# Altium schematic symbol library Schlib_Texas_Instruments.SchLib: 190 symbols (part 3 of 3)
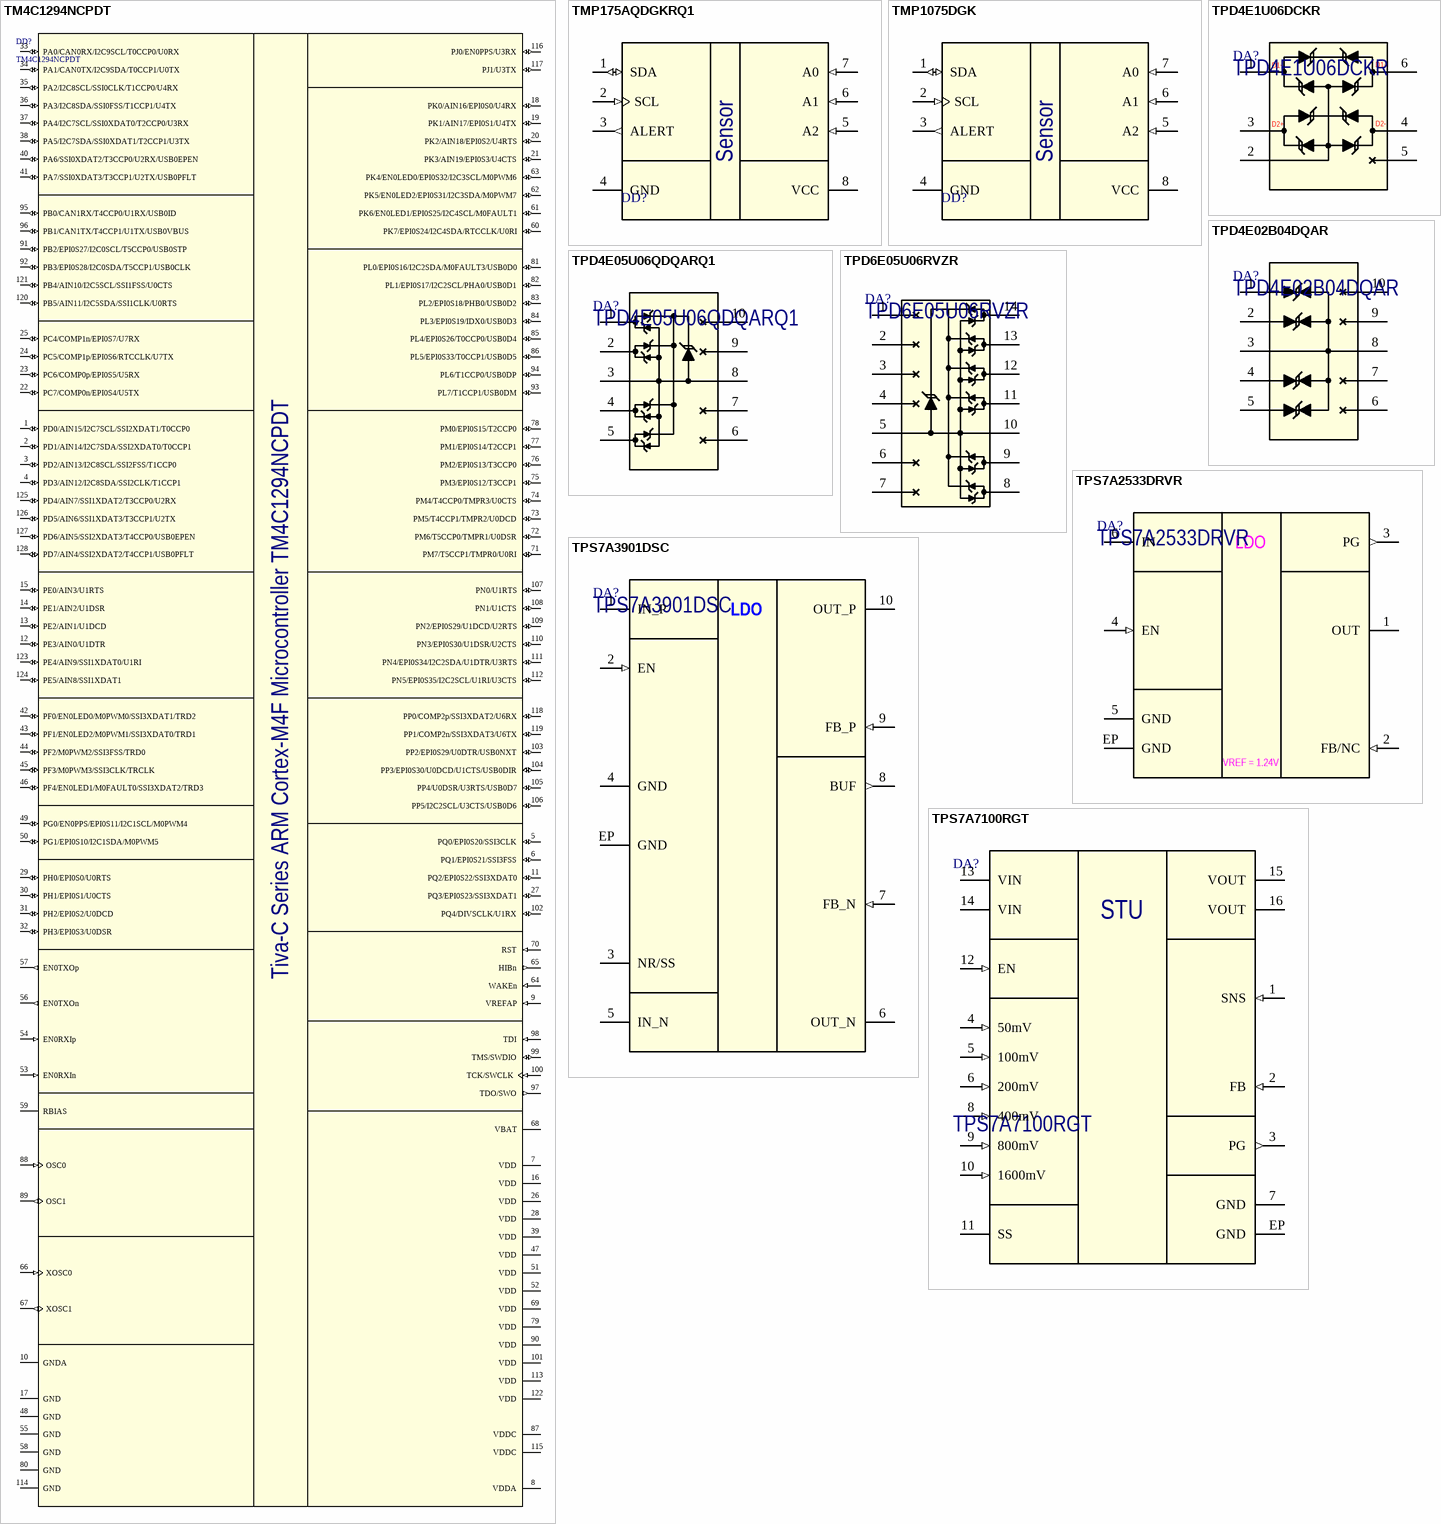
[diagram p27: symbols TM4C1294NCPDT to TPS7A7100RGT]

## TM4C1294NCPDT
designator DD?
ARM Cortex-M4F MCU 120MHz clock rate with 1MB Flash; Manufacturer: Texas Instruments; Package: TQFP128; Part Number: TM4C1294NCPDT
footprint LQFP-128 (TSQFP, 128-Leads, Body 14.00x14.00mm, Pitch 0.40mm, IPC Medium Density)
pins: 1 PD0/AIN15/I2C7SCL/SSI2XDAT1/T0CCP0 (io), 2 PD1/AIN14/I2C7SDA/SSI2XDAT0/T0CCP1 (io), 3 PD2/AIN13/I2C8SCL/SSI2FSS/T1CCP0 (io), 4 PD3/AIN12/I2C8SDA/SSI2CLK/T1CCP1 (io), 5 PQ0/EPI0S20/SSI3CLK (io), 6 PQ1/EPI0S21/SSI3FSS (io), 7 VDD (power), 8 VDDA (power), 9 VREFAP (in), 10 GNDA (power), 11 PQ2/EPI0S22/SSI3XDAT0 (io), 12 PE3/AIN0/U1DTR (io), 13 PE2/AIN1/U1DCD (io), 14 PE1/AIN2/U1DSR (io), 15 PE0/AIN3/U1RTS (io), 16 VDD (power), 17 GND (power), 18 PK0/AIN16/EPI0S0/U4RX (io), 19 PK1/AIN17/EPI0S1/U4TX (io), 20 PK2/AIN18/EPI0S2/U4RTS (io), 21 PK3/AIN19/EPI0S3/U4CTS (io), 22 PC7/COMP0n/EPI0S4/U5TX (io), 23 PC6/COMP0p/EPI0S5/U5RX (io), 24 PC5/COMP1p/EPI0S6/RTCCLK/U7TX (io), 25 PC4/COMP1n/EPI0S7/U7RX (io), 26 VDD (power), 27 PQ3/EPI0S23/SSI3XDAT1 (io), 28 VDD (power), 29 PH0/EPI0S0/U0RTS (io), 30 PH1/EPI0S1/U0CTS (io), 31 PH2/EPI0S2/U0DCD (io), 32 PH3/EPI0S3/U0DSR (io), 33 PA0/CAN0RX/I2C9SCL/T0CCP0/U0RX (io), 34 PA1/CAN0TX/I2C9SDA/T0CCP1/U0TX (io), 35 PA2/I2C8SCL/SSI0CLK/T1CCP0/U4RX (io), 36 PA3/I2C8SDA/SSI0FSS/T1CCP1/U4TX (io), 37 PA4/I2C7SCL/SSI0XDAT0/T2CCP0/U3RX (io), 38 PA5/I2C7SDA/SSI0XDAT1/T2CCP1/U3TX (io), 39 VDD (power), 40 PA6/SSI0XDAT2/T3CCP0/U2RX/USB0EPEN (io), 41 PA7/SSI0XDAT3/T3CCP1/U2TX/USB0PFLT (io), 42 PF0/EN0LED0/M0PWM0/SSI3XDAT1/TRD2 (io), 43 PF1/EN0LED2/M0PWM1/SSI3XDAT0/TRD1 (io), 44 PF2/M0PWM2/SSI3FSS/TRD0 (io), 45 PF3/M0PWM3/SSI3CLK/TRCLK (io), 46 PF4/EN0LED1/M0FAULT0/SSI3XDAT2/TRD3 (io), 47 VDD (power), 48 GND (power), 49 PG0/EN0PPS/EPI0S11/I2C1SCL/M0PWM4 (io), 50 PG1/EPI0S10/I2C1SDA/M0PWM5 (io), 51 VDD (power), 52 VDD (power), 53 EN0RXIn (in), 54 EN0RXIp (in), 55 GND (power), 56 EN0TXOn (out), 57 EN0TXOp (out), 58 GND (power), 59 RBIAS, 60 PK7/EPI0S24/I2C4SDA/RTCCLK/U0RI (io), 61 PK6/EN0LED1/EPI0S25/I2C4SCL/M0FAULT1 (io), 62 PK5/EN0LED2/EPI0S31/I2C3SDA/M0PWM7 (io), 63 PK4/EN0LED0/EPI0S32/I2C3SCL/M0PWM6 (io), 64 WAKEn (in), 65 HIBn (out), 66 XOSC0 (in), 67 XOSC1 (out), 68 VBAT (power), 69 VDD (power), 70 RST (in), 71 PM7/T5CCP1/TMPR0/U0RI (io), 72 PM6/T5CCP0/TMPR1/U0DSR (io), 73 PM5/T4CCP1/TMPR2/U0DCD (io), 74 PM4/T4CCP0/TMPR3/U0CTS (io), 75 PM3/EPI0S12/T3CCP1 (io), 76 PM2/EPI0S13/T3CCP0 (io), 77 PM1/EPI0S14/T2CCP1 (io), 78 PM0/EPI0S15/T2CCP0 (io), 79 VDD (power), 80 GND (power), 81 PL0/EPI0S16/I2C2SDA/M0FAULT3/USB0D0 (io), 82 PL1/EPI0S17/I2C2SCL/PHA0/USB0D1 (io), 83 PL2/EPI0S18/PHB0/USB0D2 (io), 84 PL3/EPI0S19/IDX0/USB0D3 (io), 85 PL4/EPI0S26/T0CCP0/USB0D4 (io), 86 PL5/EPI0S33/T0CCP1/USB0D5 (io), 87 VDDC (power), 88 OSC0 (in), 89 OSC1 (out), 90 VDD (power), 91 PB2/EPI0S27/I2C0SCL/T5CCP0/USB0STP (io), 92 PB3/EPI0S28/I2C0SDA/T5CCP1/USB0CLK (io), 93 PL7/T1CCP1/USB0DM (io), 94 PL6/T1CCP0/USB0DP (io), 95 PB0/CAN1RX/T4CCP0/U1RX/USB0ID (io), 96 PB1/CAN1TX/T4CCP1/U1TX/USB0VBUS (io), 97 TDO/SWO (out), 98 TDI (in), 99 TMS/SWDIO (io), 100 TCK/SWCLK (in), 101 VDD (power), 102 PQ4/DIVSCLK/U1RX (io), 103 PP2/EPI0S29/U0DTR/USB0NXT (io), 104 PP3/EPI0S30/U0DCD/U1CTS/USB0DIR (io), 105 PP4/U0DSR/U3RTS/USB0D7 (io), 106 PP5/I2C2SCL/U3CTS/USB0D6 (io), 107 PN0/U1RTS (io), 108 PN1/U1CTS (io), 109 PN2/EPI0S29/U1DCD/U2RTS (io), 110 PN3/EPI0S30/U1DSR/U2CTS (io), 111 PN4/EPI0S34/I2C2SDA/U1DTR/U3RTS (io), 112 PN5/EPI0S35/I2C2SCL/U1RI/U3CTS (io), 113 VDD (power), 114 GND (power), 115 VDDC (power), 116 PJ0/EN0PPS/U3RX (io), 117 PJ1/U3TX (io), 118 PP0/COMP2p/SSI3XDAT2/U6RX (io), 119 PP1/COMP2n/SSI3XDAT3/U6TX (io), 120 PB5/AIN11/I2C5SDA/SSI1CLK/U0RTS (io), 121 PB4/AIN10/I2C5SCL/SSI1FSS/U0CTS (io), 122 VDD (power), 123 PE4/AIN9/SSI1XDAT0/U1RI (io), 124 PE5/AIN8/SSI1XDAT1 (io), 125 PD4/AIN7/SSI1XDAT2/T3CCP0/U2RX (io), 126 PD5/AIN6/SSI1XDAT3/T3CCP1/U2TX (io), 127 PD6/AIN5/SSI2XDAT3/T4CCP0/USB0EPEN (io), 128 PD7/AIN4/SSI2XDAT2/T4CCP1/USB0PFLT (io)
text: Tiva-C Series ARM Cortex-M4F Microcontroller TM4C1294NCPDT

## TMP175AQDGKRQ1
designator DD?
Temperature Sensor With I2C and SMBus Interface; Manufacturer: Texas Instruments; Part Number: TMP175AQDGKRQ1; Package: MSOP-8; Author: Sklyarov
footprint MSOP-8 (TSOP, 8-Leads, Body 3.00x3.00mm, Pitch 0.65mm, IPC Medium Density)
pins: 1 SDA (io), 2 SCL (in), 3 ALERT (out), 4 GND (power), 5 A2 (in), 6 A1 (in), 7 A0 (in), 8 VCC (power)
text: Sensor

## TMP1075DGK
designator DD?
Temperature Sensor With I2C and SMBus Interface; Manufacturer: Texas Instruments; Part Number: TMP1075DGK; Package: MSOP-8; Author: Sklyarov
footprint MSOP-8 (TSOP, 8-Leads, Body 3.00x3.00mm, Pitch 0.65mm, IPC Medium Density)
pins: 1 SDA (io), 2 SCL (in), 3 ALERT (out), 4 GND (power), 5 A2 (in), 6 A1 (in), 7 A0 (in), 8 VCC (power)
text: Sensor

## TPD4E1U06DCKR
designator DA?
6 Quad-Channel, High-Speed ESD Protection Device; Manufacturer: Texas Instruments; Part Number: TPD4E1U06DCKR; Package: SC70-6
footprint SC70-6
pins: 1 D1+, 2 GND (power), 3 D2+, 4 D2-, 5 NC (hiz), 6 D1-

## TPD4E02B04DQAR
designator DA?
4-Channel ESD Protection Diode for USB Type-C and HDMI 2.0; Manufacturer: Texas Instruments; Part Number: TPD4E02B04DQAR; Package: USON-10
footprint USON-10 (USON-10 package. Ref DQA0010A TI)
pins: 1 IO1, 2 IO2, 3 GND (hiz), 4 IO3, 5 IO4, 6 NC (hiz), 7 NC (hiz), 8 GND (hiz), 9 NC (hiz), 10 NC (hiz)

## TPD4E05U06QDQARQ1
designator DA?
4 Channel ESD Protection Diodes for SuperSpeed (Up to 6 Gbps); Manufacturer: Texas Instruments; Part Number: TPD4E05U06QDQARQ1; Package: USON-10
footprint USON-10 (USON-10 package. Ref DQA0010A TI)
pins: 1 IO1, 2 IO2, 3 GND (hiz), 4 IO3, 5 IO4, 6 NC (hiz), 7 NC (hiz), 8 GND (hiz), 9 NC (hiz), 10 NC (hiz)

## TPD6E05U06RVZR
designator DA?
6 Channel ESD Protection Diodes for SuperSpeed (Up to 6 Gbps); Manufacturer: Texas Instruments; Part Number: TPD6E05U06RVZR; Package: USON-14
footprint USON-14 (USON-14 package)
pins: 1 NC (hiz), 2 NC (hiz), 3 NC (hiz), 4 NC (hiz), 5 GND (power), 6 NC (hiz), 7 NC (hiz), 8 D3-, 9 D3+, 10 GND (power), 11 D2-, 12 D2+, 13 D1-, 14 D1+

## TPS7A2533DRVR
designator DA?
3.3V Low-Dropout Linear Voltage Regulator With Power-Good; Manufacturer: Texas Instruments; Part Number: TPS7A2533DRVR; Package: WSON-6
footprint DRV6
pins: 1 OUT (power), 2 FB/NC (in), 3 PG (out), 4 EN (in), 5 GND (power), 6 IN (power), EP GND (power)
text: LDO; VREF = 1.24V

## TPS7A3901DSC
designator DA?
Dual, 150 mA Positive and Negative LDO Voltage Regulator; Manufacturer: Texas Instruments; Part Number: TPS7A3901DSC; Package: WSON-10
footprint WSON-10 (WSON-10, TI case style DSC0010J)
pins: 1 IN_P (power), 2 EN (in), 3 NR/SS, 4 GND (power), 5 IN_N (power), 6 OUT_N (power), 7 FB_N (in), 8 BUF (out), 9 FB_P (in), 10 OUT_P (power), EP GND (power)
text: LDO

## TPS7A7100RGT
designator DA?
1-A, Fast-Transient, Low-Dropout Voltage Regulator; Manufacturer: Texas Instruments; Part Number: TPS7A7100RGT; Package: VQFN-16 (3mm x 3mm)
footprint VQFN-16 (VQFN-16 package 3 x 3mm with 0.5mm pitch)
pins: 1 SNS (in), 2 FB (in), 3 PG (out), 4 50mV (in), 5 100mV (in), 6 200mV (in), 7 GND (power), 8 400mV (in), 9 800mV (in), 10 1600mV (in), 11 SS, 12 EN (in), 13 VIN (power), 14 VIN (power), 15 VOUT (power), 16 VOUT (power), EP GND (power)
text: STU

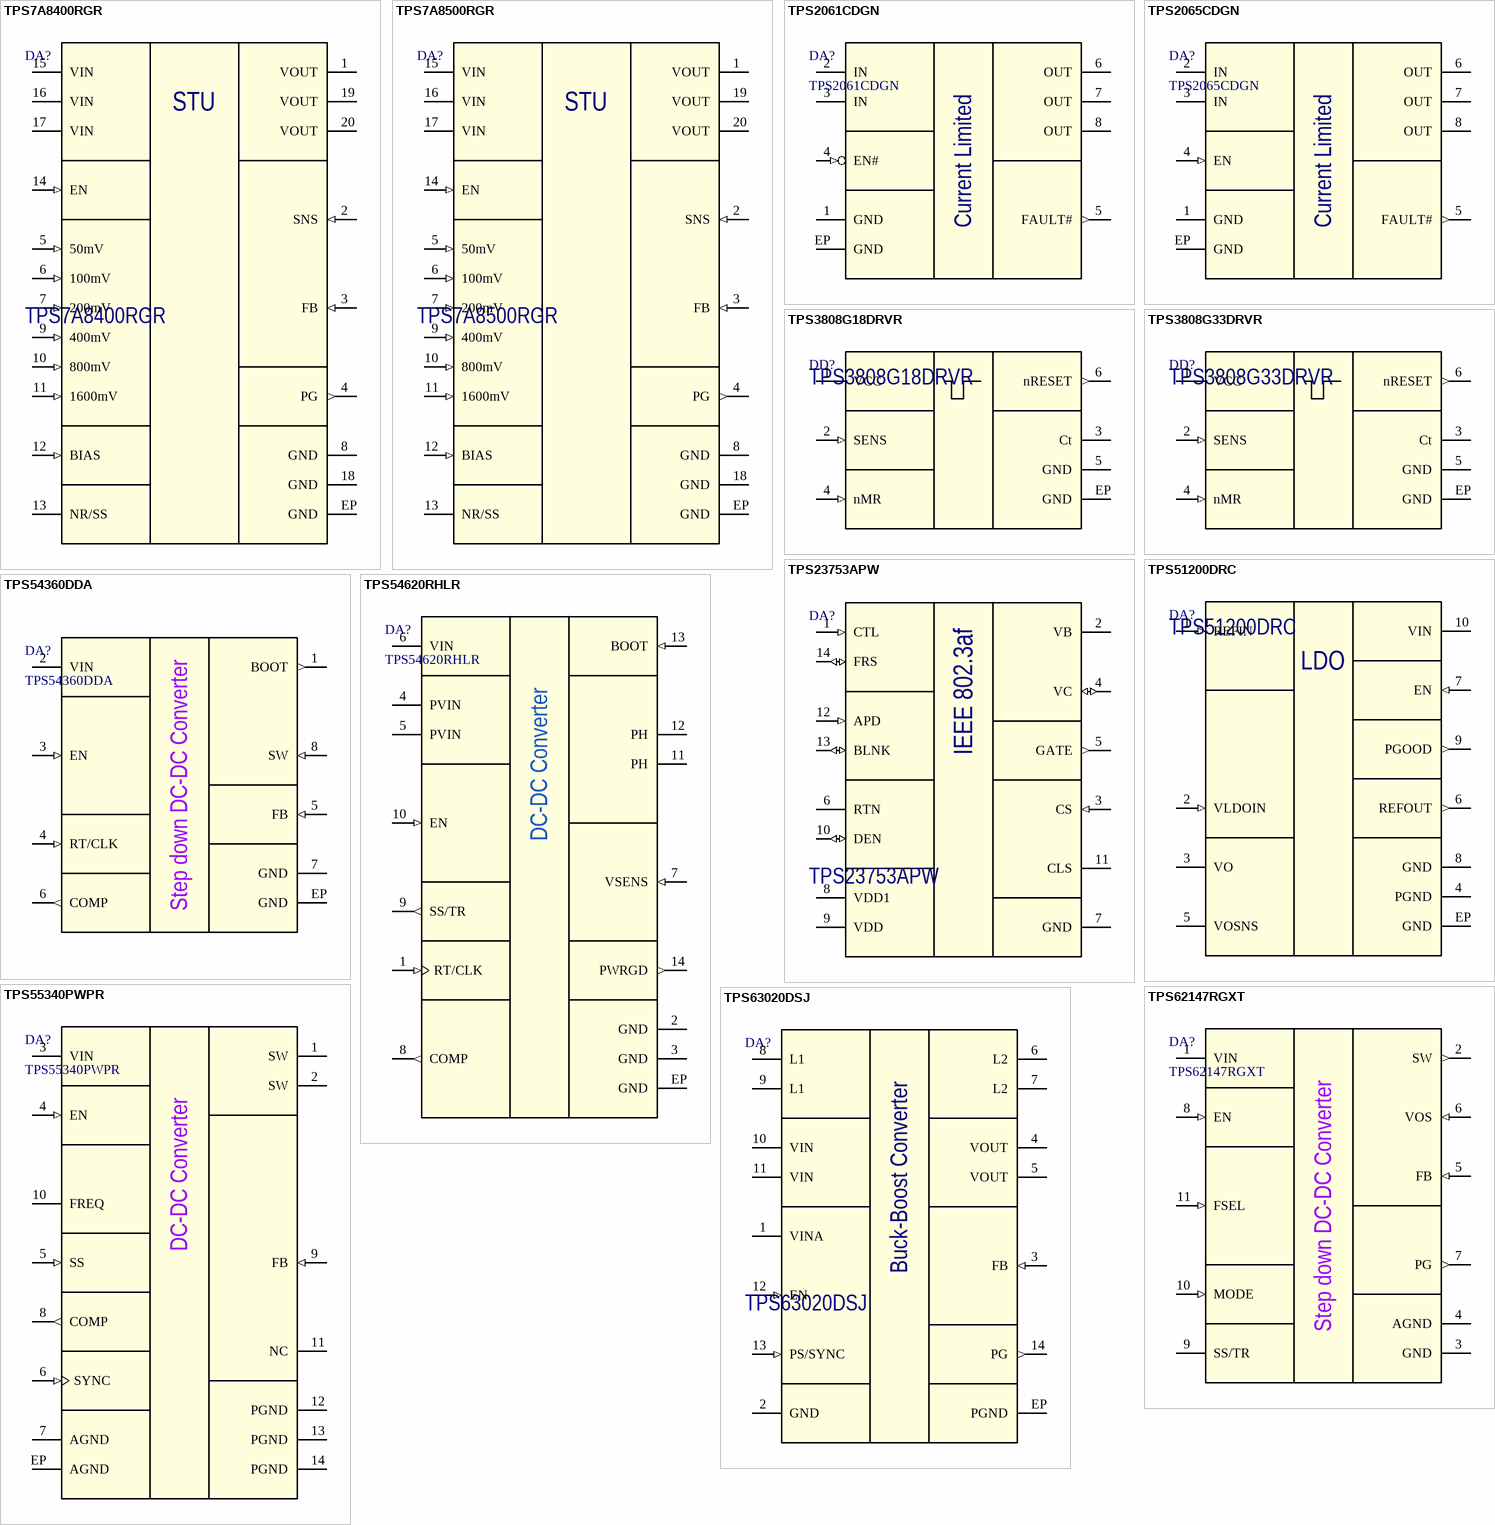
[diagram p22: symbols TPS7A8400RGR to TPS63020DSJ]

## TPS7A8400RGR
designator DA?
High-Current (3 A) Low-Noise (4.4 µVRMS) LDO Voltage Regulator; Manufacturer: Texas Instruments; Part Number: TPS7A8400RGR; Package: VQFN-20 (3.5mm x 3.5mm)
footprint VQFN-20 (VQFN-20 package 3.5 x 3.5mm with 0.5mm pitch)
pins: 1 VOUT (power), 2 SNS (in), 3 FB (in), 4 PG (out), 5 50mV (in), 6 100mV (in), 7 200mV (in), 8 GND (power), 9 400mV (in), 10 800mV (in), 11 1600mV (in), 12 BIAS (in), 13 NR/SS, 14 EN (in), 15 VIN (power), 16 VIN (power), 17 VIN (power), 18 GND (power), 19 VOUT (power), 20 VOUT (power), EP GND (power)
text: STU

## TPS7A8500RGR
designator DA?
High-Current (4 A) Low-Noise (4.4 µVRMS) LDO Voltage Regulator; Manufacturer: Texas Instruments; Part Number: TPS7A8500RGR; Package: VQFN-20 (3.5mm x 3.5mm)
footprint VQFN-20 (VQFN-20 package 3.5 x 3.5mm with 0.5mm pitch)
pins: 1 VOUT (power), 2 SNS (in), 3 FB (in), 4 PG (out), 5 50mV (in), 6 100mV (in), 7 200mV (in), 8 GND (power), 9 400mV (in), 10 800mV (in), 11 1600mV (in), 12 BIAS (in), 13 NR/SS, 14 EN (in), 15 VIN (power), 16 VIN (power), 17 VIN (power), 18 GND (power), 19 VOUT (power), 20 VOUT (power), EP GND (power)
text: STU

## TPS2061CDGN
designator DA?
Current Limited, Power-Distribution Switches; Manufacturer: Texas Instruments; Part Number: TPS2061CDGN; Package: MSOP-8
footprint MSOP-8EP (TSOP, 8-Leads, Body 3.00x3.00mm, Pitch 0.65mm, IPC Medium Density)
pins: 1 GND (power), 2 IN (power), 3 IN (power), 4 EN# (in), 5 FAULT# (out), 6 OUT (power), 7 OUT (power), 8 OUT (power), EP GND (power)
text: Current Limited

## TPS2065CDGN
designator DA?
Current Limited, Power-Distribution Switches; Manufacturer: Texas Instruments; Part Number: TPS2065CDGN; Package: MSOP-8
footprint MSOP-8EP (TSOP, 8-Leads, Body 3.00x3.00mm, Pitch 0.65mm, IPC Medium Density)
pins: 1 GND (power), 2 IN (power), 3 IN (power), 4 EN (in), 5 FAULT# (out), 6 OUT (power), 7 OUT (power), 8 OUT (power), EP GND (power)
text: Current Limited

## TPS3808G18DRVR
designator DD?
Programmable-Delay Supervisory Circuit; Manufacturer: Texas Instruments; Part Number: TPS3808G18DRVR; Package: WSON-6; Dimension: 2 x 2 x 0.8 mm
footprint WDFN-6 (WDFN-6 package 2mm x 2mm with 0.65mm pitch)
pins: 1 VCC (power), 2 SENS (in), 3 Ct, 4 nMR (in), 5 GND (power), 6 nRESET (out), EP GND (power)

## TPS3808G33DRVR
designator DD?
Programmable-Delay Supervisory Circuit; Manufacturer: Texas Instruments; Part Number: TPS3808G33DRVR; Package: WSON-6; Dimension: 2 x 2 x 0.8 mm
footprint WDFN-6 (WDFN-6 package 2mm x 2mm with 0.65mm pitch)
pins: 1 VCC (power), 2 SENS (in), 3 Ct, 4 nMR (in), 5 GND (power), 6 nRESET (out), EP GND (power)

## TPS23753APW
designator DA?
IEEE 802.3 PoE Interface and Converter Controller With Enhanced ESD  Immunity; Manufacturer: Texas Instruments; Part Number: TPS23753APW; Package: TSSOP-14
footprint TSSOP-14 (TSOP, 20-Leads, Body 6.50x4.40mm, Pitch 0.65mm, IPC Medium Density)
pins: 1 CTL (in), 2 VB (power), 3 CS (in), 4 VC (io), 5 GATE (out), 6 RTN, 7 GND (power), 8 VDD1 (power), 9 VDD (power), 10 DEN (io), 11 CLS (power), 12 APD (in), 13 BLNK (io), 14 FRS (io)
text: IEEE 802.3af

## TPS51200DRC
designator DA?
Sink and Source DDR Termination Regulator; Manufacturer: Texas Instruments; Part Number: TPS51200DRC; Package: VSON-10
footprint VSON-10 (VSON-10 package 3 x 3mm with 0.5mm pitch)
pins: 1 REFIN (in), 2 VLDOIN (in), 3 VO (power), 4 PGND (power), 5 VOSNS (power), 6 REFOUT (out), 7 EN (in), 8 GND (power), 9 PGOOD (out), 10 VIN (power), EP GND (power)
text: LDO

## TPS54360DDA
designator DA?
60-V Input, 3.5-A, Step-Down DC/DC Converter With Eco-Mode; Manufacturer: Texas Instruments; Part Number: TPS54360DDA; Package: SOIC-8
footprint SOIC-8EP (SOIC-8 package with exponsed pad)
pins: 1 BOOT (out), 2 VIN (power), 3 EN (in), 4 RT/CLK (in), 5 FB (in), 6 COMP (out), 7 GND (power), 8 SW (in), EP GND (power)
text: Step down DC-DC Converter

## TPS54620RHLR
designator DA?
4.5-V to 17-V Input, 6-A, Synchronous, Step-Down SWIFT™ Converter; Manufacturer: Texas Instruments; Part Number: TPS54620RHLR; Package: VQFN-14
footprint VQFN-14_RHL0014A (VQFN-24 package 5.5x3.5mm with 0.5mm pitch)
pins: 1 RT/CLK (in), 2 GND (power), 3 GND (power), 4 PVIN (power), 5 PVIN (power), 6 VIN (power), 7 VSENS (in), 8 COMP (out), 9 SS/TR (out), 10 EN (in), 11 PH (power), 12 PH (power), 13 BOOT (in), 14 PWRGD (out), EP GND (power)
text: DC-DC Converter

## TPS55340PWPR
designator DA?
Integrated 5-A Wide Input Range Boost/SEPIC/Flyback DC/DC Regulator; Manufacturer: Texas Instruments; Part Number: TPS55340PWPR; Package: HTSSOP-14
footprint HTSSOP-14_WITHOUT_HEATSINK
footprint HTSSOP-14
pins: 1 SW (power), 2 SW (power), 3 VIN (power), 4 EN (in), 5 SS (in), 6 SYNC (in), 7 AGND (power), 8 COMP (out), 9 FB (in), 10 FREQ, 11 NC (hiz), 12 PGND (power), 13 PGND (power), 14 PGND (power), EP AGND (power)
text: DC-DC Converter

## TPS62147RGXT
designator DA?
High Accuracy 3-V to 17-V 2-A Step-Down Converter; Manufacturer: Texas Instruments; Part Number: TPS62147RGXT; Package: VQFN-HR-11
footprint VQFN-HR-11 (VQFN-HR-11 package with 0.5mm pitch)
pins: 1 VIN (power), 2 SW (out), 3 GND (power), 4 AGND (power), 5 FB (in), 6 VOS (in), 7 PG (out), 8 EN (in), 9 SS/TR, 10 MODE (in), 11 FSEL (in)
text: Step down DC-DC Converter

## TPS63020DSJ
designator DA?
High Efficiency Single Inductor Buck-Boost Converter with 4-A Switches; Manufacturer: Texas Instruments; Part Number: TPS63020DSJ; Package: PVSON-14
footprint PVSON-14 (PVSON-14 4mm x 3mm, 0.4mm pitch)
pins: 1 VINA (power), 2 GND (power), 3 FB (in), 4 VOUT (power), 5 VOUT (power), 6 L2, 7 L2, 8 L1, 9 L1, 10 VIN (power), 11 VIN (power), 12 EN (in), 13 PS/SYNC (in), 14 PG (out), EP PGND (power)
text: Buck-Boost Converter

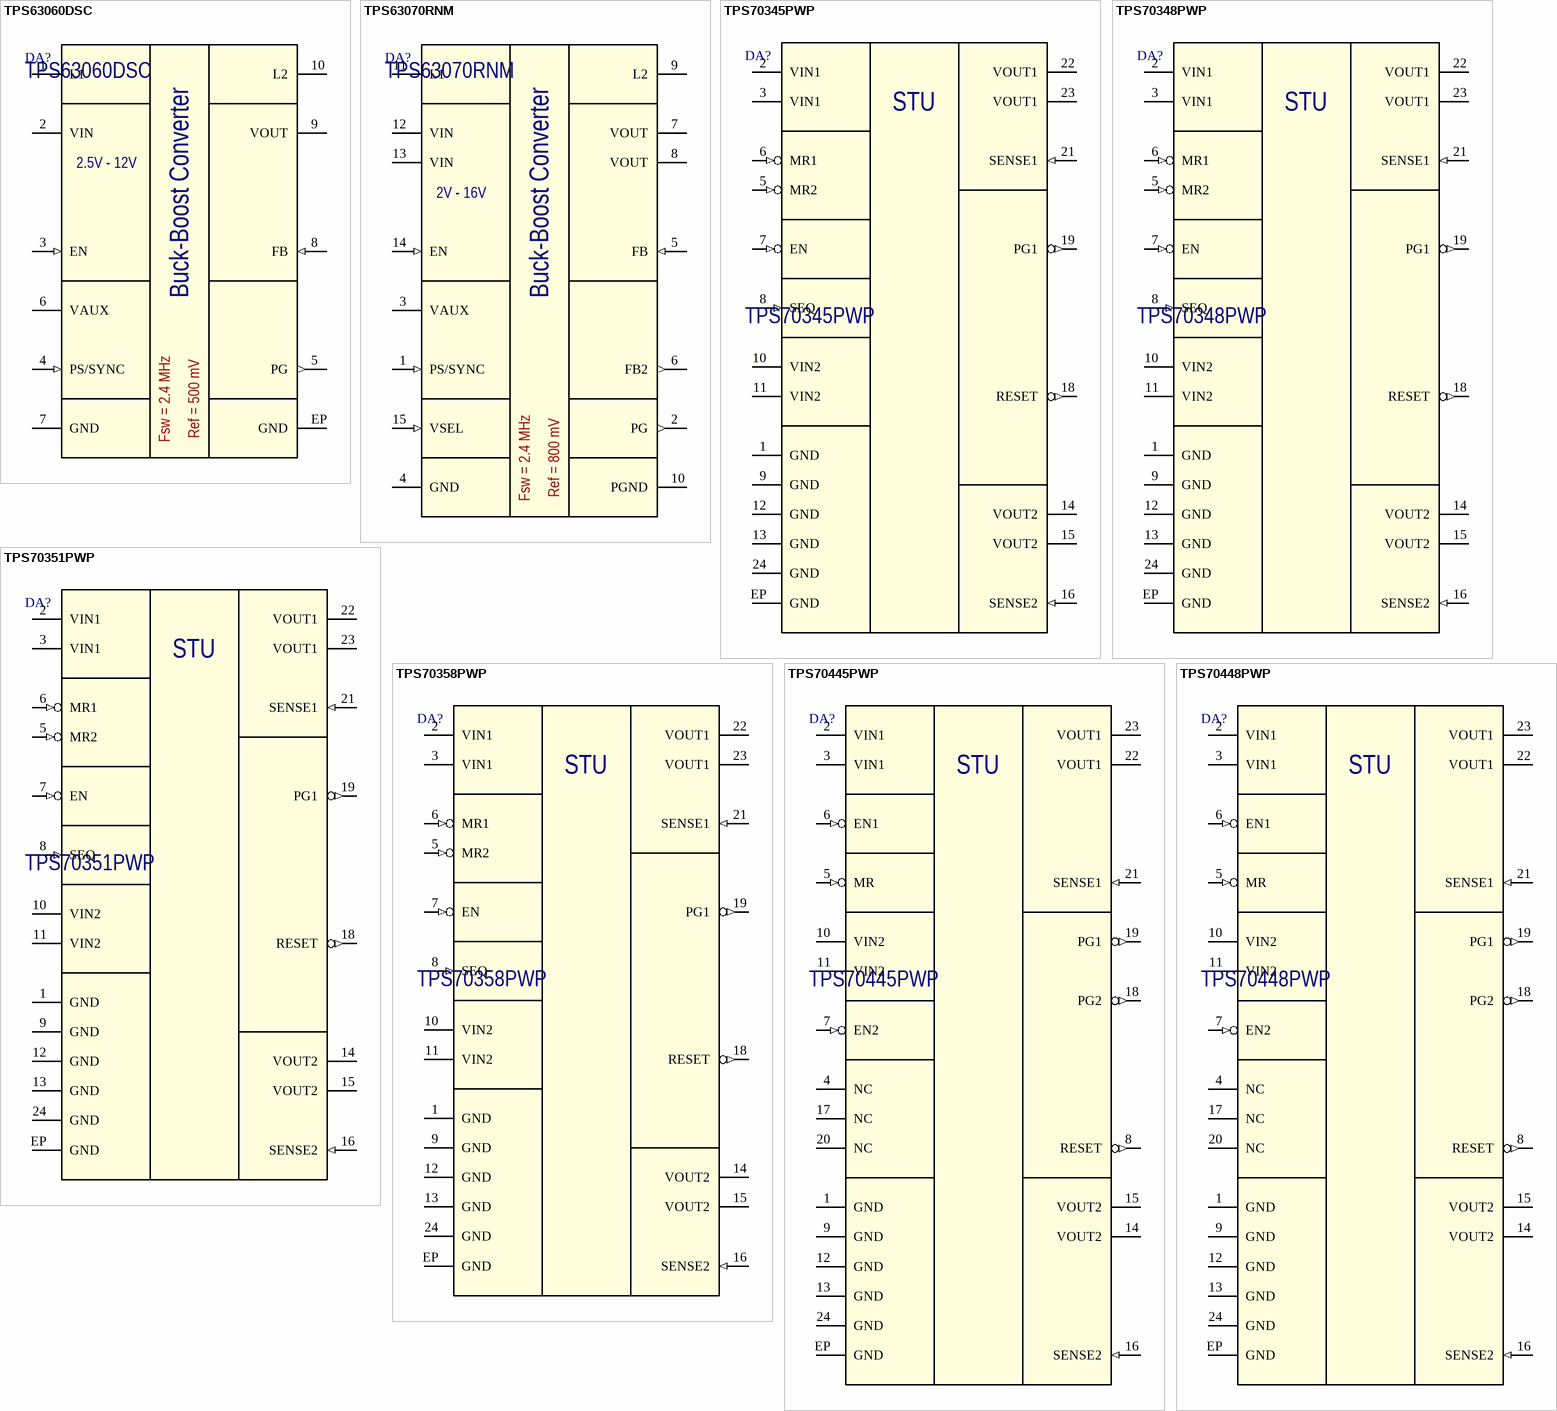
[diagram p23: symbols TPS63060DSC to TPS70448PWP]

## TPS63060DSC
designator DA?
High Input Voltage, 2A Buck-Boost Converter; Manufacturer: Texas Instruments; Part Number: TPS63060DSC; Package: PWSON-10
footprint PWSON-10 (Power QFN 3mm x 3mm)
pins: 1 L1, 2 VIN (power), 3 EN (in), 4 PS/SYNC (in), 5 PG (out), 6 VAUX, 7 GND (power), 8 FB (in), 9 VOUT (power), 10 L2, EP GND (power)
text: 2.5V - 12V; Buck-Boost Converter; Fsw = 2.4 MHz; Ref = 500 mV

## TPS63070RNM
designator DA?
High Input Voltage, 2A Buck-Boost Converter; Manufacturer: Texas Instruments; Part Number: TPS63070RNM; Package: VQFN-15
footprint VQFN-15 (Power VQFN 3mm x 2.5mm)
pins: 1 PS/SYNC (in), 2 PG (out), 3 VAUX, 4 GND (power), 5 FB (in), 6 FB2 (out), 7 VOUT (power), 8 VOUT (power), 9 L2, 10 PGND (power), 11 L1, 12 VIN (power), 13 VIN (power), 14 EN (in), 15 VSEL (in)
text: 2V - 16V; Buck-Boost Converter; Fsw = 2.4 MHz; Ref = 800 mV

## TPS70345PWP
designator DA?
LDO (V1 = 3.3V, V2 = 1.2V); Manufacturer: Texas Instruments; Part Number: TPS70345PWP; Package: HTSSOP-24
footprint HTSSOP-24
footprint HTSSOP-24_WITHOUT_HEATSINK
pins: 1 GND (power), 2 VIN1 (power), 3 VIN1 (power), 5 MR2 (in), 6 MR1 (in), 7 EN (in), 8 SEQ (in), 9 GND (power), 10 VIN2 (power), 11 VIN2 (power), 12 GND (power), 13 GND (power), 14 VOUT2 (power), 15 VOUT2 (power), 16 SENSE2 (in), 18 RESET (out), 19 PG1 (out), 21 SENSE1 (in), 22 VOUT1 (power), 23 VOUT1 (power), 24 GND (power), EP GND (power)
text: STU

## TPS70348PWP
designator DA?
LDO (V1 = 3.3V, V2 = 1.5V); Manufacturer: Texas Instruments; Part Number: TPS70348PWP; Package: HTSSOP-24
footprint HTSSOP-24
footprint HTSSOP-24_WITHOUT_HEATSINK
pins: 1 GND (power), 2 VIN1 (power), 3 VIN1 (power), 5 MR2 (in), 6 MR1 (in), 7 EN (in), 8 SEQ (in), 9 GND (power), 10 VIN2 (power), 11 VIN2 (power), 12 GND (power), 13 GND (power), 14 VOUT2 (power), 15 VOUT2 (power), 16 SENSE2 (in), 18 RESET (out), 19 PG1 (out), 21 SENSE1 (in), 22 VOUT1 (power), 23 VOUT1 (power), 24 GND (power), EP GND (power)
text: STU

## TPS70351PWP
designator DA?
LDO (V1 = 3.3V, V2 = 1.8V); Manufacturer: Texas Instruments; Part Number: TPS70351PWP; Package: HTSSOP-24
footprint HTSSOP-24
footprint HTSSOP-24_WITHOUT_HEATSINK
pins: 1 GND (power), 2 VIN1 (power), 3 VIN1 (power), 5 MR2 (in), 6 MR1 (in), 7 EN (in), 8 SEQ (in), 9 GND (power), 10 VIN2 (power), 11 VIN2 (power), 12 GND (power), 13 GND (power), 14 VOUT2 (power), 15 VOUT2 (power), 16 SENSE2 (in), 18 RESET (out), 19 PG1 (out), 21 SENSE1 (in), 22 VOUT1 (power), 23 VOUT1 (power), 24 GND (power), EP GND (power)
text: STU

## TPS70358PWP
designator DA?
LDO (V1 = 3.3V, V2 = 2.5V); Manufacturer: Texas Instruments; Part Number: TPS70358PWP; Package: HTSSOP-24
footprint HTSSOP-24
footprint HTSSOP-24_WITHOUT_HEATSINK
pins: 1 GND (power), 2 VIN1 (power), 3 VIN1 (power), 5 MR2 (in), 6 MR1 (in), 7 EN (in), 8 SEQ (in), 9 GND (power), 10 VIN2 (power), 11 VIN2 (power), 12 GND (power), 13 GND (power), 14 VOUT2 (power), 15 VOUT2 (power), 16 SENSE2 (in), 18 RESET (out), 19 PG1 (out), 21 SENSE1 (in), 22 VOUT1 (power), 23 VOUT1 (power), 24 GND (power), EP GND (power)
text: STU

## TPS70445PWP
designator DA?
LDO (V1 = 3.3V, V2 = 1.2V) with two enable; Manufacturer: Texas Instruments; Part Number: TPS70445PWP; Package: HTSSOP-24
footprint HTSSOP-24
footprint HTSSOP-24_WITHOUT_HEATSINK
pins: 1 GND (power), 2 VIN1 (power), 3 VIN1 (power), 4 NC (hiz), 5 MR (in), 6 EN1 (in), 7 EN2 (in), 8 RESET (out), 9 GND (power), 10 VIN2 (power), 11 VIN2 (power), 12 GND (power), 13 GND (power), 14 VOUT2 (power), 15 VOUT2 (power), 16 SENSE2 (in), 17 NC (hiz), 18 PG2 (out), 19 PG1 (out), 20 NC (hiz), 21 SENSE1 (in), 22 VOUT1 (power), 23 VOUT1 (power), 24 GND (power), EP GND (power)
text: STU

## TPS70448PWP
designator DA?
LDO (V1 = 3.3V, V2 = 1.5V) with two enable; Manufacturer: Texas Instruments; Part Number: TPS70448PWP; Package: HTSSOP-24
footprint HTSSOP-24
footprint HTSSOP-24_WITHOUT_HEATSINK
pins: 1 GND (power), 2 VIN1 (power), 3 VIN1 (power), 4 NC (hiz), 5 MR (in), 6 EN1 (in), 7 EN2 (in), 8 RESET (out), 9 GND (power), 10 VIN2 (power), 11 VIN2 (power), 12 GND (power), 13 GND (power), 14 VOUT2 (power), 15 VOUT2 (power), 16 SENSE2 (in), 17 NC (hiz), 18 PG2 (out), 19 PG1 (out), 20 NC (hiz), 21 SENSE1 (in), 22 VOUT1 (power), 23 VOUT1 (power), 24 GND (power), EP GND (power)
text: STU

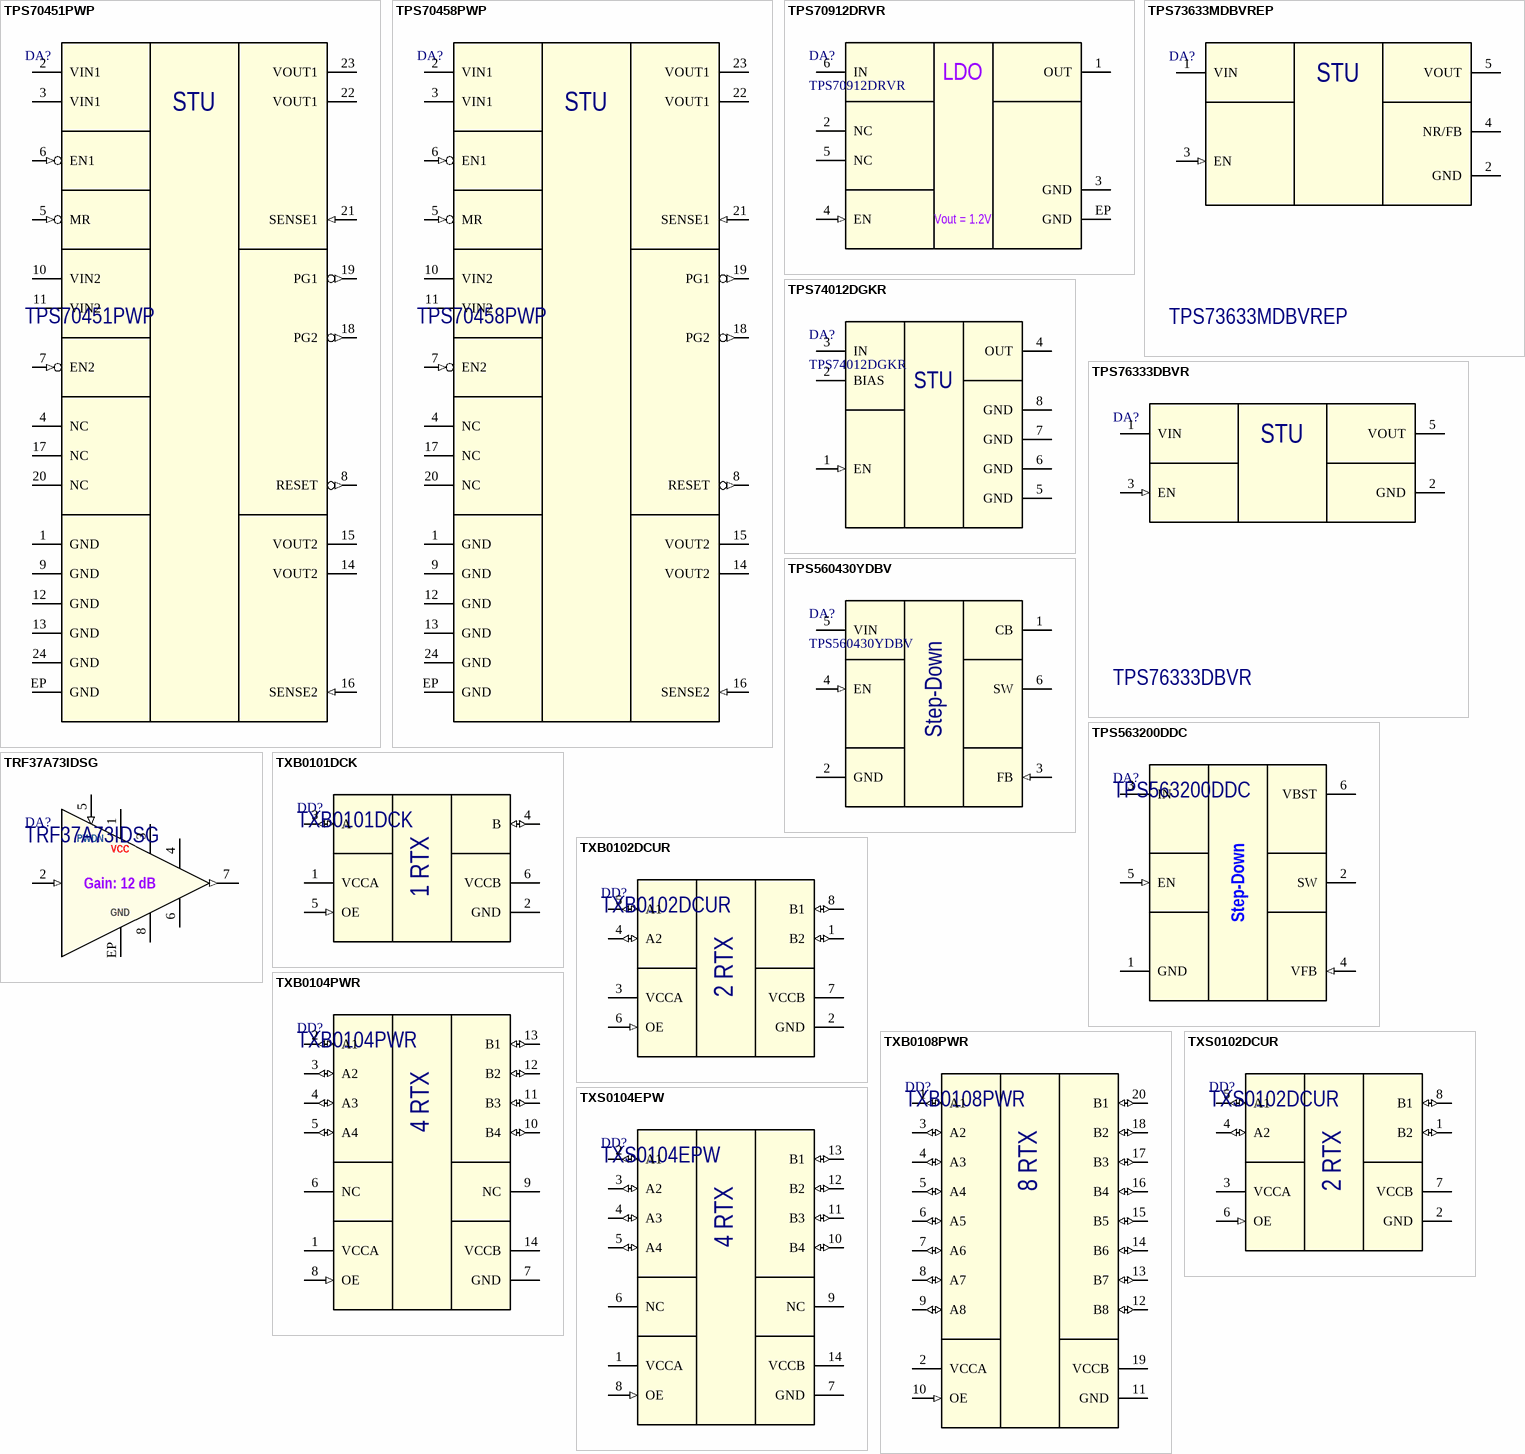
[diagram p24: symbols TPS70451PWP to TXS0104EPW]

## TPS70451PWP
designator DA?
LDO (V1 = 3.3V, V2 = 1.8V) with two enable; Manufacturer: Texas Instruments; Part Number: TPS70451PWP; Package: HTSSOP-24
footprint HTSSOP-24
footprint HTSSOP-24_WITHOUT_HEATSINK
pins: 1 GND (power), 2 VIN1 (power), 3 VIN1 (power), 4 NC (hiz), 5 MR (in), 6 EN1 (in), 7 EN2 (in), 8 RESET (out), 9 GND (power), 10 VIN2 (power), 11 VIN2 (power), 12 GND (power), 13 GND (power), 14 VOUT2 (power), 15 VOUT2 (power), 16 SENSE2 (in), 17 NC (hiz), 18 PG2 (out), 19 PG1 (out), 20 NC (hiz), 21 SENSE1 (in), 22 VOUT1 (power), 23 VOUT1 (power), 24 GND (power), EP GND (power)
text: STU

## TPS70458PWP
designator DA?
LDO (V1 = 3.3V, V2 = 2.5V) with two enable; Manufacturer: Texas Instruments; Part Number: TPS70458PWP; Package: HTSSOP-24
footprint HTSSOP-24
footprint HTSSOP-24_WITHOUT_HEATSINK
pins: 1 GND (power), 2 VIN1 (power), 3 VIN1 (power), 4 NC (hiz), 5 MR (in), 6 EN1 (in), 7 EN2 (in), 8 RESET (out), 9 GND (power), 10 VIN2 (power), 11 VIN2 (power), 12 GND (power), 13 GND (power), 14 VOUT2 (power), 15 VOUT2 (power), 16 SENSE2 (in), 17 NC (hiz), 18 PG2 (out), 19 PG1 (out), 20 NC (hiz), 21 SENSE1 (in), 22 VOUT1 (power), 23 VOUT1 (power), 24 GND (power), EP GND (power)
text: STU

## TPS70912DRVR
designator DA?
150-mA, 30-V, 1-µA IQ Voltage Regulators With Enable; Manufacturer: Texas Instruments; Part Number: TPS70912DRVR; Package: WSON-6
footprint WSON6_DRV0006A (WSON6 case style DRV0006A TI)
pins: 1 OUT (power), 2 NC (hiz), 3 GND (power), 4 EN (in), 5 NC (hiz), 6 IN (power), EP GND (power)
text: LDO; Vout = 1.2V

## TPS73633MDBVREP
designator DA?
400mA Low-Dropout Regulators; Manufacturer: Texas Instruments; Part Number: TPS73633MDBVREP; Package: SOT23-5
footprint SOT23-5 (SOT23, 6-Leads, Body 2.90x2.80mm, Pitch 0.95mm, IPC Medium Density)
pins: 1 VIN (power), 2 GND (power), 3 EN (in), 4 NR/FB, 5 VOUT (power)
text: STU

## TPS74012DGKR
designator DA?
1.5-A, Low-Voltage LDO Regulator; Manufacturer: Texas Instruments; Part Number: TPS74012DGKR; Package: MSOP-8
footprint MSOP-8 (TSOP, 8-Leads, Body 3.00x3.00mm, Pitch 0.65mm, IPC Medium Density)
pins: 1 EN (in), 2 BIAS (power), 3 IN (power), 4 OUT (power), 5 GND (power), 6 GND (power), 7 GND (power), 8 GND (power)
text: STU

## TPS76333DBVR
designator DA?
200-mA, Low-IQ, Low-Dropout Regulator for Portable Devices; Manufacturer: Texas Instruments; Part Number: TPS76333DBVR; Package: SOT23-5
footprint SOT23-5 (SOT23, 6-Leads, Body 2.90x2.80mm, Pitch 0.95mm, IPC Medium Density)
pins: 1 VIN (power), 2 GND (power), 3 EN (in), 5 VOUT (power)
text: STU

## TPS560430YDBV
designator DA?
4-V to 36-V, 600-mA Synchronous Step-Down Converter; Manufacturer: Texas Instruments; Part Number: TPS560430YDBV; Package: SOT23-6
footprint SOT23-6 (SOT23, 6-Leads, Body 2.90x2.80mm, Pitch 0.95mm, IPC Medium Density)
pins: 1 CB (power), 2 GND (power), 3 FB (in), 4 EN (in), 5 VIN (power), 6 SW (power)
text: Step-Down

## TPS563200DDC
designator DA?
4.5-V To 17-V Input 3-A Synchronous Step-Down Voltage Regulator In 6 Pin SOT-23; Manufacturer: Texas Instruments; Part Number: TPS563200DDC; Package: SOT223-6
footprint SOT23-6 (SOT23, 6-Leads, Body 2.90x2.80mm, Pitch 0.95mm, IPC Medium Density)
pins: 1 GND (power), 2 SW (power), 3 IN (power), 4 VFB (in), 5 EN (in), 6 VBST (power)
text: Step-Down

## TRF37A73IDSG
designator DA?
1-6000 MHz RF Gain Block; Manufacturer: Texas Instruments; Part Number: TRF37A73IDSG; Package: WSON-8
footprint WSON-8(2x2) (WSON-8, 8-Leads, Body 2,00x2,00mm, Pitch 0,50mm, Thermal Pad 0,90x1,65mm, IPC Medium Density)
pins: 1 VCC (power), 2 RFIN (in), 3 NC (hiz), 4 NC (hiz), 5 PWDN (in), 6 NC (hiz), 7 RFOUT (out), 8 NC (hiz), EP GND (power)
text: Gain: 12 dB

## TXB0101DCK
designator DD?
1-Bit Bidirectional Voltage-Level Translator; Manufacturer: Texas Instruments; Part Number: TXB0101DCK; Package: SC70-6
footprint SC70-6
pins: 1 VCCA (power), 2 GND (power), 3 A (io), 4 B (io), 5 OE (in), 6 VCCB (power)
text: 1 RTX

## TXB0102DCUR
designator DD?
2-Bit Bidirectional Voltage-Level Translator; Manufacturer: Texas Instruments; Part Number: TXB0102DCUR; Package: VSSOP-8
footprint VSSOP-8_SM8 (VSSOP, 8-Leads, Body 2.30x2.00mm, Pitch 0.5mm, IPC Medium Density)
pins: 1 B2 (io), 2 GND (power), 3 VCCA (power), 4 A2 (io), 5 A1 (io), 6 OE (in), 7 VCCB (power), 8 B1 (io)
text: 2 RTX

## TXB0104PWR
designator DD?
4-Bit Bidirectional Voltage-Level Translator; Manufacturer: Texas Instruments; Part Number: TXB0104PWR; Package: TSSOP-14
footprint TSSOP-14 (TSOP, 20-Leads, Body 6.50x4.40mm, Pitch 0.65mm, IPC Medium Density)
pins: 1 VCCA (power), 2 A1 (io), 3 A2 (io), 4 A3 (io), 5 A4 (io), 6 NC, 7 GND (power), 8 OE (in), 9 NC, 10 B4 (io), 11 B3 (io), 12 B2 (io), 13 B1 (io), 14 VCCB (power)
text: 4 RTX

## TXB0108PWR
designator DD?
8-Bit Bidirectional Voltage-Level Translator; Manufacturer: Texas Instruments; Part Number: TXB0108PWR; Package: TSSOP-20
footprint TSSOP-20 (TSOP, 20-Leads, Body 6.50x4.40mm, Pitch 0.65mm, IPC Medium Density)
pins: 1 A1 (io), 2 VCCA (power), 3 A2 (io), 4 A3 (io), 5 A4 (io), 6 A5 (io), 7 A6 (io), 8 A7 (io), 9 A8 (io), 10 OE (in), 11 GND (power), 12 B8 (io), 13 B7 (io), 14 B6 (io), 15 B5 (io), 16 B4 (io), 17 B3 (io), 18 B2 (io), 19 VCCB (power), 20 B1 (io)
text: 8 RTX

## TXS0102DCUR
designator DD?
2-Bit Bidirectional Voltage-Level Translator r for Open-Drain and Push-Pull Applications; Manufacturer: Texas Instruments; Part Number: TXS0102DCUR; Package: VSSOP-8
footprint VSSOP-8_SM8 (VSSOP, 8-Leads, Body 2.30x2.00mm, Pitch 0.5mm, IPC Medium Density)
pins: 1 B2 (io), 2 GND (power), 3 VCCA (power), 4 A2 (io), 5 A1 (io), 6 OE (in), 7 VCCB (power), 8 B1 (io)
text: 2 RTX

## TXS0104EPW
designator DD?
4-Bit Bidirectional Voltage-Level Translator for Open-Drain and Push-Pull Applications; Manufacturer: Texas Instruments; Part Number: TXS0104EPW; Package: TSSOP-14
footprint TSSOP-14 (TSOP, 20-Leads, Body 6.50x4.40mm, Pitch 0.65mm, IPC Medium Density)
pins: 1 VCCA (power), 2 A1 (io), 3 A2 (io), 4 A3 (io), 5 A4 (io), 6 NC, 7 GND (power), 8 OE (in), 9 NC, 10 B4 (io), 11 B3 (io), 12 B2 (io), 13 B1 (io), 14 VCCB (power)
text: 4 RTX

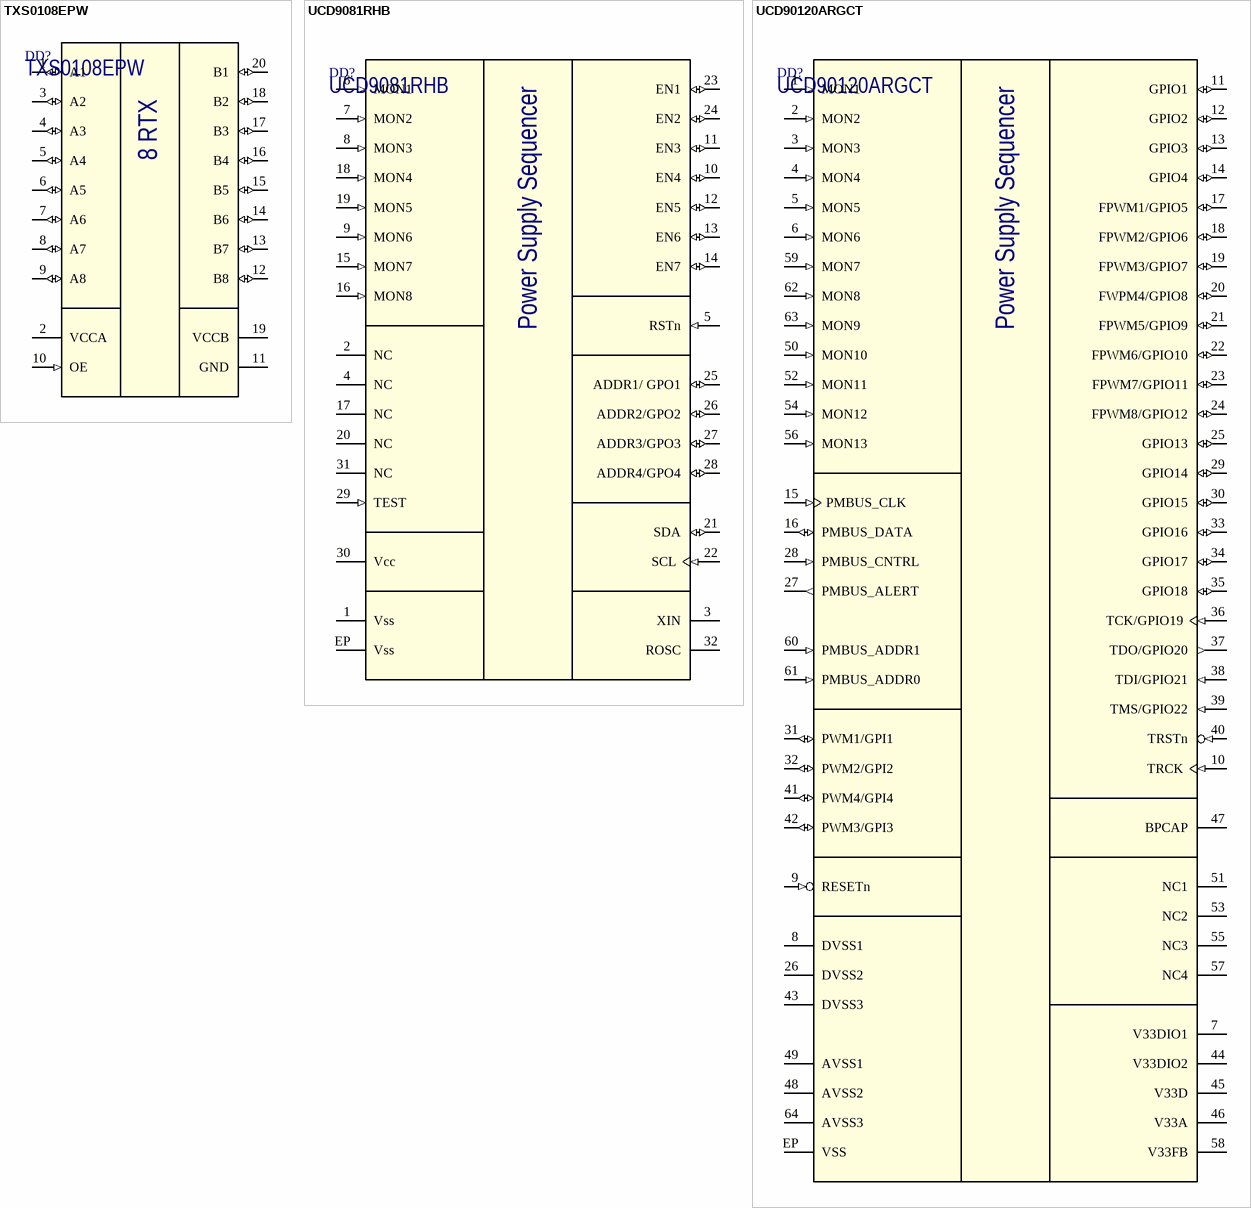
[diagram p25: symbols TXS0108EPW to UCD90120ARGCT]

## TXS0108EPW
designator DD?
8-Bit Bidirectional Voltage-Level Translator for Open-Drain and Push-Pull Applications; Manufacturer: Texas Instruments; Part Number: TXS0108EPW; Package: TSSOP-20
footprint TSSOP-20 (TSOP, 20-Leads, Body 6.50x4.40mm, Pitch 0.65mm, IPC Medium Density)
pins: 1 A1 (io), 2 VCCA (power), 3 A2 (io), 4 A3 (io), 5 A4 (io), 6 A5 (io), 7 A6 (io), 8 A7 (io), 9 A8 (io), 10 OE (in), 11 GND (power), 12 B8 (io), 13 B7 (io), 14 B6 (io), 15 B5 (io), 16 B4 (io), 17 B3 (io), 18 B2 (io), 19 VCCB (power), 20 B1 (io)
text: 8 RTX

## UCD9081RHB
designator DD?
8-Channel Power Supply Sequencer and Monitor With Error Logging; Manufacturer: Texas Instruments; Part Number: UCD9081RHB; Package: QFN-32 (5 x 5mm)
footprint QFN32 (QFN, 32-Leads, Body 5.00x5.00mm, Pitch 0.50mm, Thermal Pad 3.50x3.50mm, IPC Medium Density)
pins: 1 Vss (power), 2 NC (hiz), 3 XIN, 4 NC (hiz), 5 RSTn (in), 6 MON1 (in), 7 MON2 (in), 8 MON3 (in), 9 MON6 (in), 10 EN4 (io), 11 EN3 (io), 12 EN5 (io), 13 EN6 (io), 14 EN7 (io), 15 MON7 (in), 16 MON8 (in), 17 NC (hiz), 18 MON4 (in), 19 MON5 (in), 20 NC (hiz), 21 SDA (io), 22 SCL (in), 23 EN1 (io), 24 EN2 (io), 25 ADDR1/ GPO1 (io), 26 ADDR2/GPO2 (io), 27 ADDR3/GPO3 (io), 28 ADDR4/GPO4 (io), 29 TEST (in), 30 Vcc (power), 31 NC (hiz), 32 ROSC, EP Vss (power)
text: Power Supply Sequencer

## UCD90120ARGCT
designator DD?
12-Rail Power Supply Sequencer and Monitor With ACPI Support; Manufacturer: Texas Instruments; Part Number: UCD90120ARGCT; Package: QFN-64 (9 x 9mm)
footprint QFN64 (QFN64 9mm x 9mm, 0.5mm pitch)
pins: 1 MON1 (in), 2 MON2 (in), 3 MON3 (in), 4 MON4 (in), 5 MON5 (in), 6 MON6 (in), 7 V33DIO1 (power), 8 DVSS1 (power), 9 RESETn (in), 10 TRCK (in), 11 GPIO1 (io), 12 GPIO2 (io), 13 GPIO3 (io), 14 GPIO4 (io), 15 PMBUS_CLK (in), 16 PMBUS_DATA (io), 17 FPWM1/GPIO5 (io), 18 FPWM2/GPIO6 (io), 19 FPWM3/GPIO7 (io), 20 FWPM4/GPIO8 (io), 21 FPWM5/GPIO9 (io), 22 FPWM6/GPIO10 (io), 23 FPWM7/GPIO11 (io), 24 FPWM8/GPIO12 (io), 25 GPIO13 (io), 26 DVSS2 (power), 27 PMBUS_ALERT (out), 28 PMBUS_CNTRL (in), 29 GPIO14 (io), 30 GPIO15 (io), 31 PWM1/GPI1 (io), 32 PWM2/GPI2 (io), 33 GPIO16 (io), 34 GPIO17 (io), 35 GPIO18 (io), 36 TCK/GPIO19 (in), 37 TDO/GPIO20 (out), 38 TDI/GPIO21 (in), 39 TMS/GPIO22 (in), 40 TRSTn (in), 41 PWM4/GPI4 (io), 42 PWM3/GPI3 (io), 43 DVSS3 (power), 44 V33DIO2 (power), 45 V33D (power), 46 V33A (power), 47 BPCAP, 48 AVSS2 (power), 49 AVSS1 (power), 50 MON10 (in), 51 NC1 (hiz), 52 MON11 (in), 53 NC2 (hiz), 54 MON12 (in), 55 NC3 (hiz), 56 MON13 (in), 57 NC4 (hiz), 58 V33FB (power), 59 MON7 (in), 60 PMBUS_ADDR1 (in), 61 PMBUS_ADDR0 (in), 62 MON8 (in), 63 MON9 (in), 64 AVSS3 (power), EP VSS (power)
text: Power Supply Sequencer